# EAGLE library part MSTBA-10 (library con-phoenix-500)
COMBICON MSTBA - 1757543
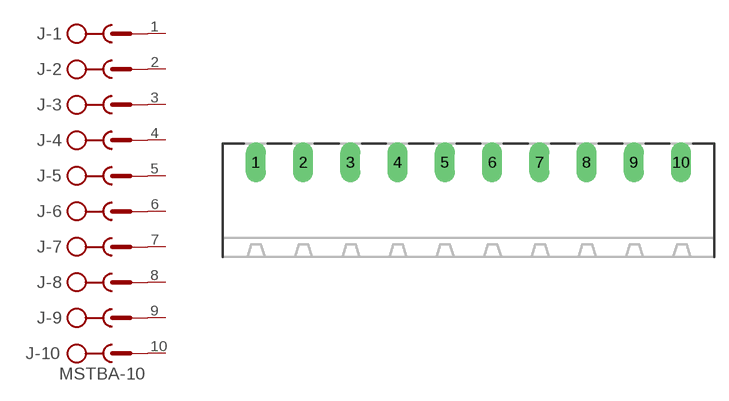
[diagram p19: symbol with the pads of MSTBA-10; footprint MSTBA-10]

Designator prefix J; gates -1=SK -2=SK -3=SK -4=SK -5=SK -6=SK -7=SK -8=SK -9=SK -10=SK+V

## MSTBA-10  [MSTBA-10]
1  -1:SK  pas
2  -2:SK  pas
3  -3:SK  pas
4  -4:SK  pas
5  -5:SK  pas
6  -6:SK  pas
7  -7:SK  pas
8  -8:SK  pas
9  -9:SK  pas
10  -10:SK  pas

## Footprint MSTBA-10 (pad centres in mm)
COMBICON MSTBA 5.00mm
drill 1.422 long: 1 -22.5,0; 2 -17.5,0; 3 -12.5,0; 4 -7.5,0; 5 -2.5,0; 6 2.5,0; 7 7.5,0; 8 12.5,0; 9 17.5,0; 10 22.5,0